# EAGLE library part MICRO_SD (library 111_microsd)
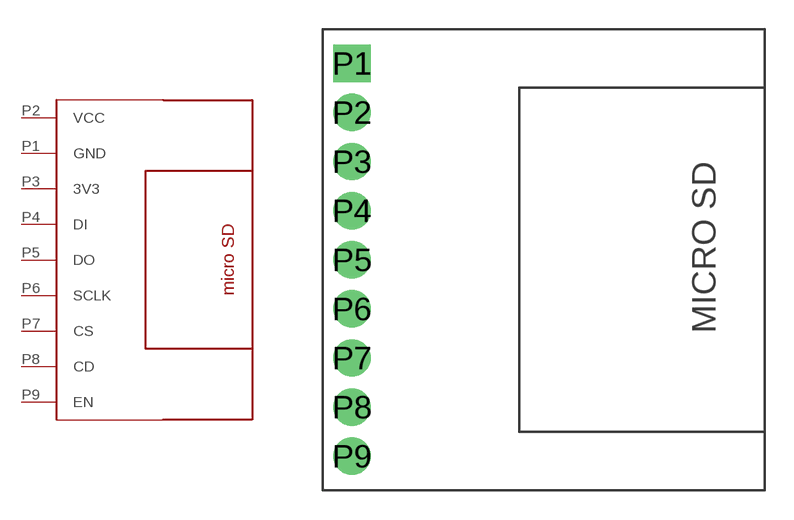
[diagram p0: symbol with the pads of MICRO_SD; footprint MICRO_SD]

Designator prefix SD

## MICRO_SD  [MICRO_SD]
P1  GND  pwr
P2  VCC  pwr
P3  3V3
P4  DI
P5  DO
P6  SCLK
P7  CS
P8  CD
P9  EN

## Footprint MICRO_SD (pad centres in mm)
drill 0.65 pad 1.93 square: P1 -9.906,10.16
drill 0.65 pad 1.93: P2 -9.906,7.62; P3 -9.906,5.08; P4 -9.906,2.54; P5 -9.906,0; P6 -9.906,-2.54; P7 -9.906,-5.08; P8 -9.906,-7.62; P9 -9.906,-10.16